# Altium integrated library DM3AT-SF-PEJM5.IntLib: 1 symbol
Pins are listed as number, name and electrical type; pins without a type are passive.

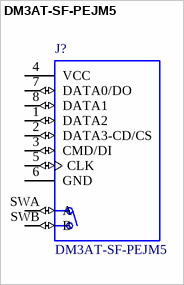
[diagram p0: symbol DM3AT-SF-PEJM5]

## DM3AT-SF-PEJM5
designator J?
DM3 RA SMT microSD memory card push/push; MF: Hirose; MP: DM3AT-SF-PEJM5; Availability: Warning; Package: None; Price: 2.58 USD; SnapEDA_Link: https://www.snapeda.com/symbols-footprints/DM3AT-SF-PEJM5/Hirose%20Electric%20Co%20Ltd/view-part/?ref=snap; Value: *
footprint HRS_DM3AT-SF-PEJM5_DM3AT-SF-PEJM5(Primary)
pins: 1 DATA2 (io), 2 DATA3-CD/CS (io), 3 CMD/DI (io), 4 VCC (power), 5 CLK (io), 6 GND (power), 7 DATA0/DO (io), 8 DATA1 (io), SWA A (io), SWB B (io)